# EAGLE library part MSP430FR5989IPMR (library msp430fr5969ipmr)
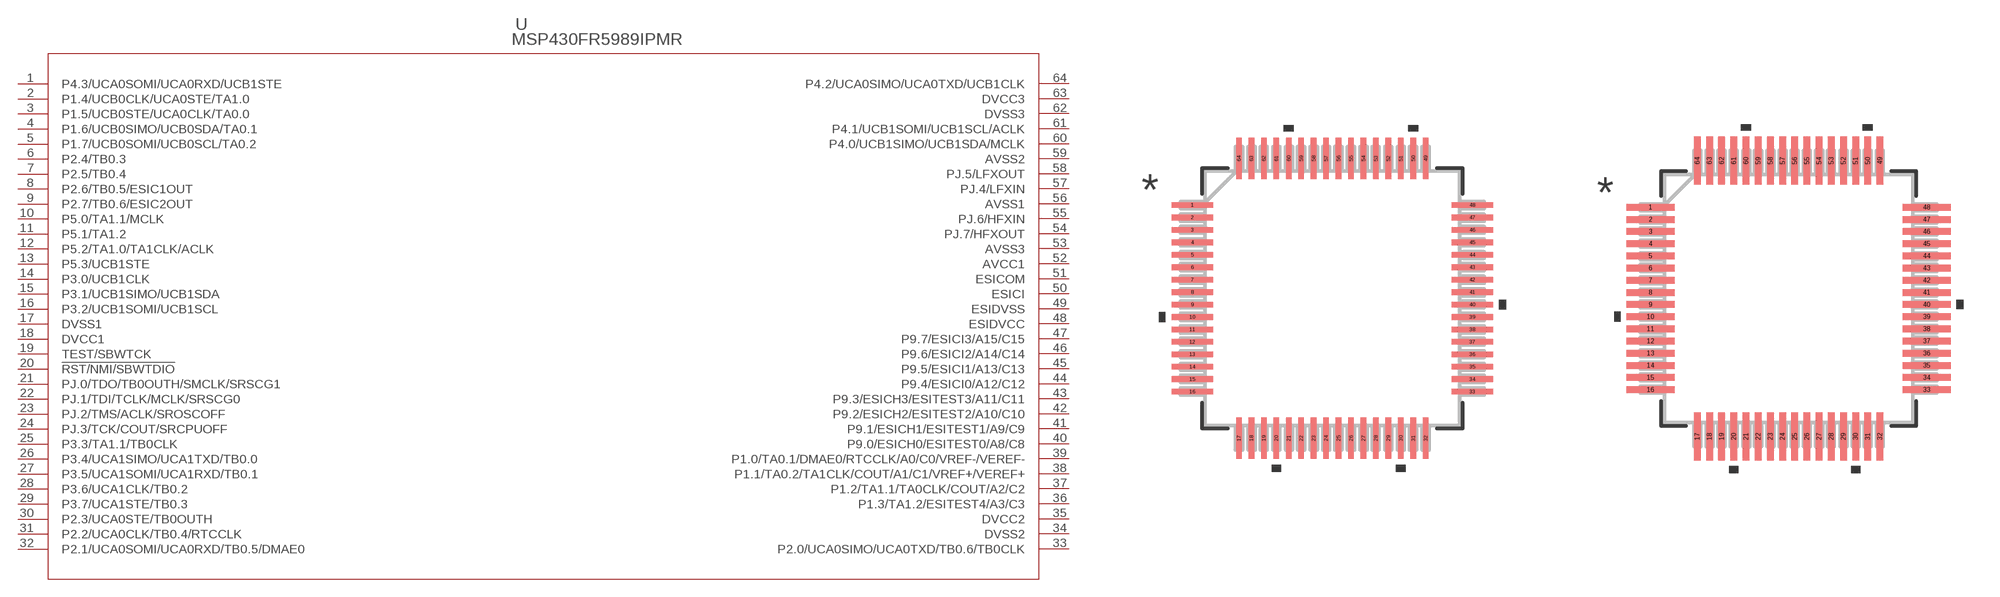
[diagram p0: symbol with the pads of PM64; footprints PM64, PM64-M]

Designator prefix U

## MSP430FR5989IPMR (MANUFACTURER_PART_NUMBER: MSP430FR5989IPMR; VENDOR: Texas Instruments)  [PM64]
1  P4.3/UCA0SOMI/UCA0RXD/UCB1STE
2  P1.4/UCB0CLK/UCA0STE/TA1.0
3  P1.5/UCB0STE/UCA0CLK/TA0.0
4  P1.6/UCB0SIMO/UCB0SDA/TA0.1
5  P1.7/UCB0SOMI/UCB0SCL/TA0.2
6  P2.4/TB0.3
7  P2.5/TB0.4
8  P2.6/TB0.5/ESIC1OUT
9  P2.7/TB0.6/ESIC2OUT
10  P5.0/TA1.1/MCLK
11  P5.1/TA1.2
12  P5.2/TA1.0/TA1CLK/ACLK
13  P5.3/UCB1STE
14  P3.0/UCB1CLK
15  P3.1/UCB1SIMO/UCB1SDA
16  P3.2/UCB1SOMI/UCB1SCL
17  DVSS1  pwr
18  DVCC1  pwr
19  TEST/SBWTCK  in
20  !RST/NMI/SBWTDIO
21  PJ.0/TDO/TB0OUTH/SMCLK/SRSCG1
22  PJ.1/TDI/TCLK/MCLK/SRSCG0
23  PJ.2/TMS/ACLK/SROSCOFF
24  PJ.3/TCK/COUT/SRCPUOFF
25  P3.3/TA1.1/TB0CLK
26  P3.4/UCA1SIMO/UCA1TXD/TB0.0
27  P3.5/UCA1SOMI/UCA1RXD/TB0.1
28  P3.6/UCA1CLK/TB0.2
29  P3.7/UCA1STE/TB0.3
30  P2.3/UCA0STE/TB0OUTH
31  P2.2/UCA0CLK/TB0.4/RTCCLK
32  P2.1/UCA0SOMI/UCA0RXD/TB0.5/DMAE0
33  P2.0/UCA0SIMO/UCA0TXD/TB0.6/TB0CLK
34  DVSS2  pwr
35  DVCC2  pwr
36  P1.3/TA1.2/ESITEST4/A3/C3
37  P1.2/TA1.1/TA0CLK/COUT/A2/C2
38  P1.1/TA0.2/TA1CLK/COUT/A1/C1/VREF+/VEREF+
39  P1.0/TA0.1/DMAE0/RTCCLK/A0/C0/VREF-/VEREF-
40  P9.0/ESICH0/ESITEST0/A8/C8
41  P9.1/ESICH1/ESITEST1/A9/C9
42  P9.2/ESICH2/ESITEST2/A10/C10
43  P9.3/ESICH3/ESITEST3/A11/C11
44  P9.4/ESICI0/A12/C12
45  P9.5/ESICI1/A13/C13
46  P9.6/ESICI2/A14/C14
47  P9.7/ESICI3/A15/C15
48  ESIDVCC  pwr
49  ESIDVSS  pwr
50  ESICI  in
51  ESICOM  pas
52  AVCC1  pwr
53  AVSS3  pwr
54  PJ.7/HFXOUT
55  PJ.6/HFXIN
56  AVSS1  pwr
57  PJ.4/LFXIN
58  PJ.5/LFXOUT
59  AVSS2  pwr
60  P4.0/UCB1SIMO/UCB1SDA/MCLK
61  P4.1/UCB1SOMI/UCB1SCL/ACLK
62  DVSS3  pwr
63  DVCC3  pwr
64  P4.2/UCA0SIMO/UCA0TXD/UCB1CLK

## MSP430FR5989IPMRPM64-M (MANUFACTURER_PART_NUMBER: MSP430FR5989IPMR; VENDOR: Texas Instruments)  [PM64-M]
Pads as for PM64

## MSP430FR5989IPMRPM64-L (MANUFACTURER_PART_NUMBER: MSP430FR5989IPMR; VENDOR: Texas Instruments)  [PM64-L]
Pads as for PM64

## Footprint PM64 (pad centres in mm)
smd 1.664 x 0.229: 1 -5.62,3.75; 2 -5.62,3.25; 3 -5.62,2.75; 4 -5.62,2.25; 5 -5.62,1.75; 6 -5.62,1.25; 7 -5.62,0.75; 8 -5.62,0.25; 9 -5.62,-0.25; 10 -5.62,-0.75; 11 -5.62,-1.25; 12 -5.62,-1.75; 13 -5.62,-2.25; 14 -5.62,-2.75; 15 -5.62,-3.25; 16 -5.62,-3.75; 33 5.62,-3.75; 34 5.62,-3.25; 35 5.62,-2.75; 36 5.62,-2.25; 37 5.62,-1.75; 38 5.62,-1.25; 39 5.62,-0.75; 40 5.62,-0.25; 41 5.62,0.25; 42 5.62,0.75; 43 5.62,1.25; 44 5.62,1.75; 45 5.62,2.25; 46 5.62,2.75; 47 5.62,3.25; 48 5.62,3.75
smd 0.229 x 1.664: 17 -3.75,-5.62; 18 -3.25,-5.62; 19 -2.75,-5.62; 20 -2.25,-5.62; 21 -1.75,-5.62; 22 -1.25,-5.62; 23 -0.75,-5.62; 24 -0.25,-5.62; 25 0.25,-5.62; 26 0.75,-5.62; 27 1.25,-5.62; 28 1.75,-5.62; 29 2.25,-5.62; 30 2.75,-5.62; 31 3.25,-5.62; 32 3.75,-5.62; 49 3.75,5.62; 50 3.25,5.62; 51 2.75,5.62; 52 2.25,5.62; 53 1.75,5.62; 54 1.25,5.62; 55 0.75,5.62; 56 0.25,5.62; 57 -0.25,5.62; 58 -0.75,5.62; 59 -1.25,5.62; 60 -1.75,5.62; 61 -2.25,5.62; 62 -2.75,5.62; 63 -3.25,5.62; 64 -3.75,5.62

## Footprint PM64-M (pad centres in mm)
smd 1.968 x 0.279: 1 -5.671,3.75; 2 -5.671,3.25; 3 -5.671,2.75; 4 -5.671,2.25; 5 -5.671,1.75; 6 -5.671,1.25; 7 -5.671,0.75; 8 -5.671,0.25; 9 -5.671,-0.25; 10 -5.671,-0.75; 11 -5.671,-1.25; 12 -5.671,-1.75; 13 -5.671,-2.25; 14 -5.671,-2.75; 15 -5.671,-3.25; 16 -5.671,-3.75; 33 5.671,-3.75; 34 5.671,-3.25; 35 5.671,-2.75; 36 5.671,-2.25; 37 5.671,-1.75; 38 5.671,-1.25; 39 5.671,-0.75; 40 5.671,-0.25; 41 5.671,0.25; 42 5.671,0.75; 43 5.671,1.25; 44 5.671,1.75; 45 5.671,2.25; 46 5.671,2.75; 47 5.671,3.25; 48 5.671,3.75
smd 0.279 x 1.968: 17 -3.75,-5.671; 18 -3.25,-5.671; 19 -2.75,-5.671; 20 -2.25,-5.671; 21 -1.75,-5.671; 22 -1.25,-5.671; 23 -0.75,-5.671; 24 -0.25,-5.671; 25 0.25,-5.671; 26 0.75,-5.671; 27 1.25,-5.671; 28 1.75,-5.671; 29 2.25,-5.671; 30 2.75,-5.671; 31 3.25,-5.671; 32 3.75,-5.671; 49 3.75,5.671; 50 3.25,5.671; 51 2.75,5.671; 52 2.25,5.671; 53 1.75,5.671; 54 1.25,5.671; 55 0.75,5.671; 56 0.25,5.671; 57 -0.25,5.671; 58 -0.75,5.671; 59 -1.25,5.671; 60 -1.75,5.671; 61 -2.25,5.671; 62 -2.75,5.671; 63 -3.25,5.671; 64 -3.75,5.671

## Footprint PM64-L (pad centres in mm)
smd 1.359 x 0.178: 1 -5.569,3.75; 2 -5.569,3.25; 3 -5.569,2.75; 4 -5.569,2.25; 5 -5.569,1.75; 6 -5.569,1.25; 7 -5.569,0.75; 8 -5.569,0.25; 9 -5.569,-0.25; 10 -5.569,-0.75; 11 -5.569,-1.25; 12 -5.569,-1.75; 13 -5.569,-2.25; 14 -5.569,-2.75; 15 -5.569,-3.25; 16 -5.569,-3.75; 33 5.569,-3.75; 34 5.569,-3.25; 35 5.569,-2.75; 36 5.569,-2.25; 37 5.569,-1.75; 38 5.569,-1.25; 39 5.569,-0.75; 40 5.569,-0.25; 41 5.569,0.25; 42 5.569,0.75; 43 5.569,1.25; 44 5.569,1.75; 45 5.569,2.25; 46 5.569,2.75; 47 5.569,3.25; 48 5.569,3.75
smd 0.178 x 1.359: 17 -3.75,-5.569; 18 -3.25,-5.569; 19 -2.75,-5.569; 20 -2.25,-5.569; 21 -1.75,-5.569; 22 -1.25,-5.569; 23 -0.75,-5.569; 24 -0.25,-5.569; 25 0.25,-5.569; 26 0.75,-5.569; 27 1.25,-5.569; 28 1.75,-5.569; 29 2.25,-5.569; 30 2.75,-5.569; 31 3.25,-5.569; 32 3.75,-5.569; 49 3.75,5.569; 50 3.25,5.569; 51 2.75,5.569; 52 2.25,5.569; 53 1.75,5.569; 54 1.25,5.569; 55 0.75,5.569; 56 0.25,5.569; 57 -0.25,5.569; 58 -0.75,5.569; 59 -1.25,5.569; 60 -1.75,5.569; 61 -2.25,5.569; 62 -2.75,5.569; 63 -3.25,5.569; 64 -3.75,5.569